# Altium schematic symbol library WR_TBL_3.SchLib: 1 symbol
Pins are listed as number, name and electrical type; pins without a type are passive.

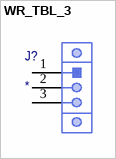
[diagram p0: symbol WR_TBL_3]

## WR_TBL_3
designator J?
pins: 1, 2, 3